# Altium footprint library 10x20_radial_angular.PcbLib: 1 footprints
Each footprint in its own frame and in the unit in brackets; x right, y up, seen from the top. Pads: shape width x height; smd on the part's side, far side on the other; paste and mask are expansions set on the pad; w line width, h text height; cw(c..) or ccw(c..) is an arc to the next point about the centre after c.
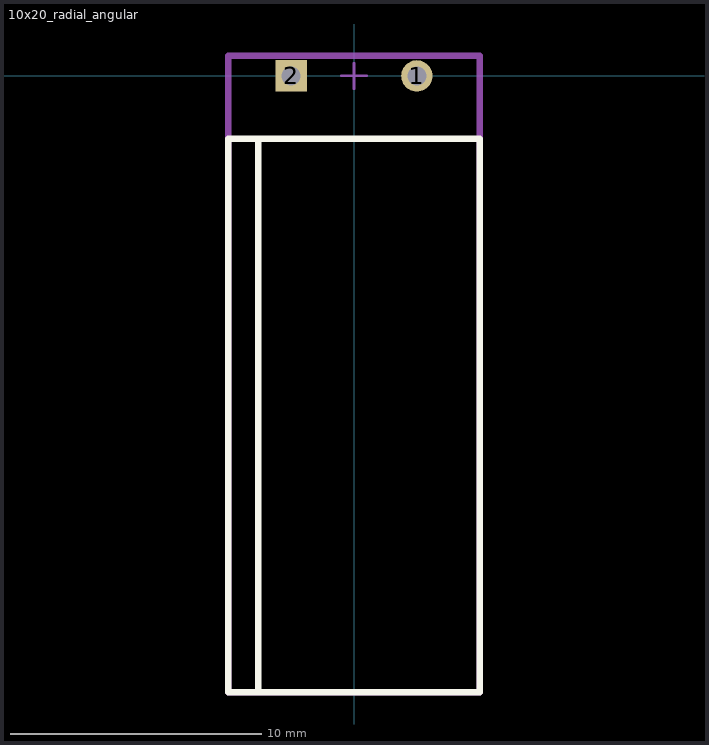
[diagram p0: the footprint, top view; thin cyan lines are the x and y axes]

## 10x20_radial_angular [mm]
pads (2):
  round 1.25 hole 0.75 paste-2539.97 mask+0: 1(2.5,0)
  rect 1.25x1.25 hole 0.75 paste-2539.97 mask+0: 2(-2.5,0)
Top Overlay:
  lines w0.254: -3.8,-24.5 -3.8,-2.5 ; -5,-24.5 -5,-2.5 5,-2.5 5,-24.5 -5,-24.5
Top Assembly:
  text ".Designator" at -0.1,-1.812 h1
Top Courtyard:
  lines w0.254: -5,-24.5 -5,0.8 5,0.8 5,-24.5 -5,-24.5
Top Component Center:
  lines w0.1: -0.5,0 0.5,0 ; 0,-0.5 0,0.5
3D body "Cap_Rubycon_250PX33MEFC10X20_eec.STEP": height 10.01, standoff 0, extent -5,-24.5 5,1.5